# EAGLE library part MAX4208 (library max4208)
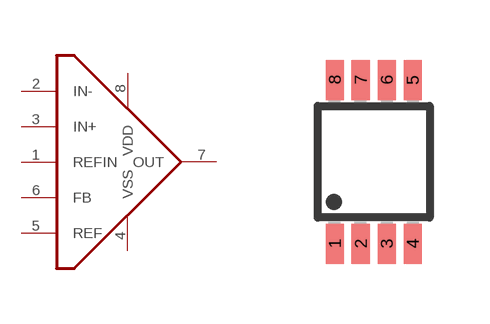
[diagram p0: symbol with the pads of MSOP8; footprint MSOP8]

Designator prefix U

## MAX4208  [MSOP8]
1  REFIN  in
2  IN-  in
3  IN+  in
4  VSS  pwr
5  REF  in
6  FB  in
7  OUT  out
8  VDD  pwr

## Footprint MSOP8 (pad centres in mm)
Micro Small Outline Package Grid .65mm
smd 0.45 x 1: 1 -0.975,-2.05; 2 -0.325,-2.05; 3 0.325,-2.05; 4 0.975,-2.05; 5 0.975,2.05; 6 0.325,2.05; 7 -0.325,2.05; 8 -0.975,2.05